# EAGLE library part 2X3-P50-E2-POGOPINS (library testing_jig)
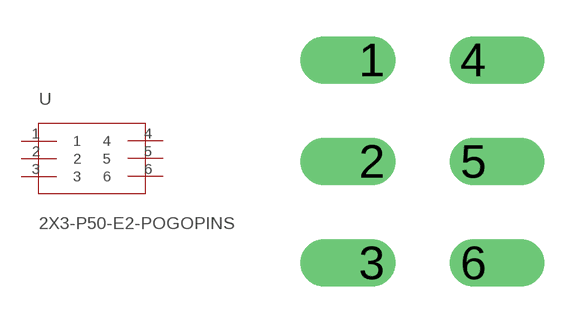
[diagram p0: symbol with the pads of 2X3-P50-E2-POGOPINS; footprint 2X3-P50-E2-POGOPINS]

Designator prefix -

## 2X3-P50-E2-POGOPINS  [2X3-P50-E2-POGOPINS]
1  1
2  2
3  3
4  4
5  5
6  6

## Footprint 2X3-P50-E2-POGOPINS (pad centres in mm)
drill 0.68 offset: 1 -2.54,2.54; 2 -2.54,0; 3 -2.54,-2.54; 4 0,2.54; 5 0,0; 6 0,-2.54